# Altium footprint library IC_STMicroelectronics_NUCLEO-F303K8_eec_MFG.PcbLib: 1 footprints
Each footprint in its own frame and in the unit in brackets; x right, y up, seen from the top. Pads: shape width x height; smd on the part's side, far side on the other; paste and mask are expansions set on the pad; w line width, h text height; cw(c..) or ccw(c..) is an arc to the next point about the centre after c.
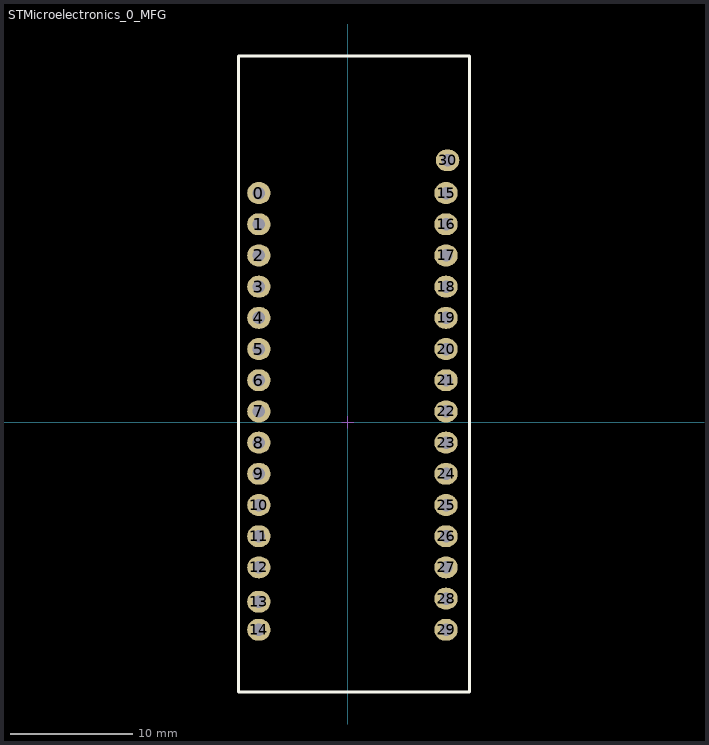
[diagram p0: the footprint, top view; thin cyan lines are the x and y axes]

## STMicroelectronics_0_MFG [mil]
pads (31):
  oval 75x70 hole 40: 0(-285,735) 1(-285,635) 2(-285,535) 3(-285,435) 4(-285,335) 5(-285,235) 6(-285,135) 7(-285,35) 8(-285,-65) 9(-285,-165) 10(-285,-265) 11(-285,-365) 12(-285,-465) 13(-285,-575) 14(-285,-665) 15(315,735) 16(315,635) 17(315,535) 18(315,435) 19(315,335) 20(315,235) 21(315,135) 22(315,35) 23(315,-65) 24(315,-165) 25(315,-265) 26(315,-365) 27(315,-465) 28(315,-565) 29(315,-665) 30(320,840)
Top Overlay:
  lines w10: -350,-865 390,-865 390,1175 -350,1175 -350,-865
Bottom Overlay:
  lines w10: -350,-865 390,-865 390,1175 -350,1175 -350,-865
Mechanical 10:
  text ".Designator" at 0,0 h39.37
Mechanical 15:
  lines w3.94: -19.68,0 19.68,0 ; 0,-19.68 0,19.68
3D body "IC_STMicroelectronics_NUCLEO-F303K8_eec.STEP": height 289.29, standoff -176.06, extent -350,-865 380,1168.89